# EAGLE library part CON-USB (library zz-m-pad-2.1)
Various USB Typ-A Connectors. From: Assmann Electronics Mill-Max Kycon
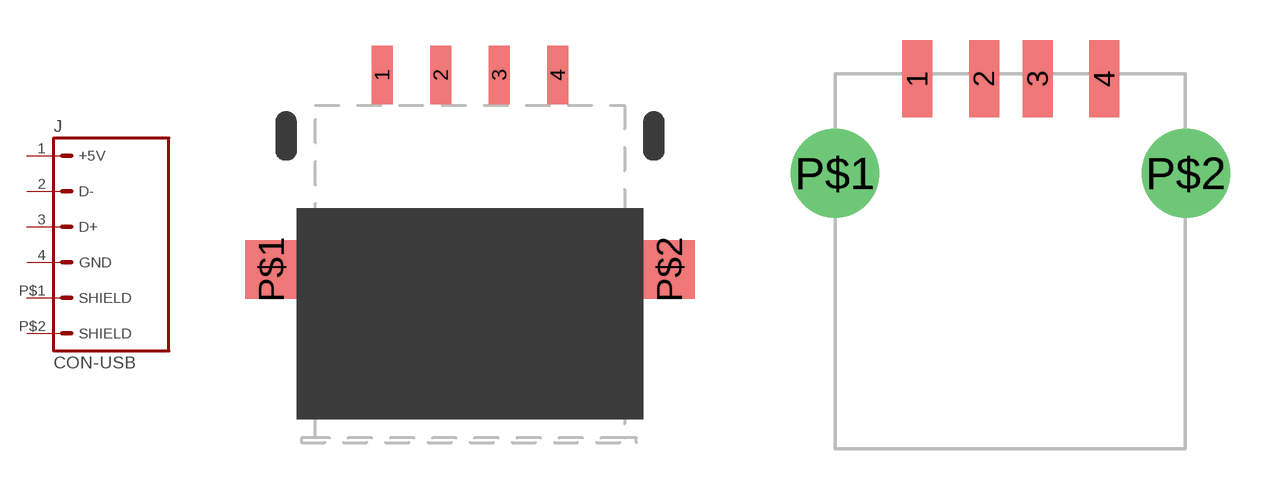
[diagram p118: symbol with the pads of KUSBL-SMT-AS1N; footprints KUSBL-SMT-AS1N, 896-30-004-00-000]

Designator prefix J

## CON-USB-2  [KUSBL-SMT-AS1N]
1  +5V  pas
2  D-  pas
3  D+  pas
4  GND  pas
P$1  SHIELD  pas
P$2  SHIELD  pas

## CON-USB-1  [896-30-004-00-000]
Pads as for KUSBL-SMT-AS1N

## CON-USB-3  [A-USB-A/SMT]
Pads as for KUSBL-SMT-AS1N

## Footprint KUSBL-SMT-AS1N (pad centres in mm)
Kycon KUSBL-SMT-AS1N KUSBL-SMT Series Low Profile A-Type Universal Serial Bus Features: Compatible With Many Computer Peripherals CSA/NRTL Certifed File No. LR78160 Supports Hot Plugging Meets USB 1.1 and 2.0 Specifications Low Profile, Surface Mount Contact Area With Gold Plating Please send any comments to: messi@users.sourceforge.net
smd 0.9 x 2.5: 1 -3.75,14.7; 2 -1.25,14.7; 3 1.25,14.7; 4 3.75,14.7
smd 2.2 x 2.5: P$1 -8.5,6.4; P$2 8.5,6.4

## Footprint 896-30-004-00-000 (pad centres in mm)
Mill-MAX's 896 and 897 Series Universal Serial Bus Sockets Features: USB receptacles for thru-hole & surface mount. Plug retention tabs. Kinked locating legs for secure PCB retention. Fully compatible with USB 1.0 specification. Passes 16MHz Signal Attentuation per ASTM-D-4566. Packaged in trays, 150 pieces per tray. Specifications: Materials: Shell & contact material: copper alloy Shell finish: tin/lead over copper Contact finish: 30?? selective gold, tin/lead tail Housing material: glass filled thermoplastic rated UL94V-0 Ratings: Voltage: 30VAC (rms) Current: 1A max. per contact for 30°C temperature rise Thru-hole housings rated at 130°C for wave soldering SMT housing rated at 240°C for reflow soldering Electrical: Contact resistance: 30mOhm max. Insulation resistance: 1000MOhm min. Dielectric withstanding voltage: 750VAC at sea level Capacitance: 2pF max. Mechanical: Random vibration: No discontinuity greater then 1us per EIA 364-28, cond. V, letter A Physical shock: No discontinuity >greater then 1us per EIA 364-27, condition H Durability: 1500 cycles min. per EIA 364-09 Mating force: 35 Newtons max. per EIA 364-13 Unmating force: 10 Newtons min. per EIA 364-13 Environmental: Thermal shock per EIA 364-32, condition I Humidity per EIA 364-31, method II, condition A Temperature life per EIA 364-17, condition 3, method A Please send any comments to: messi@users.sourceforge.net
smd 1.118 x 2.87: 1 3.073,3.531; 2 5.563,3.531; 3 7.569,3.531; 4 10.058,3.531
drill 2.3 round: P$1 0,0; P$2 13.1,0

## Footprint A-USB-A/SMT (pad centres in mm)
Assmann USB, version A + B , angled, SMD Please send any comments to: messi@users.sourceforge.net
smd 0.9 x 3: 1 -3.5,16; 2 -1,16; 3 1,16; 4 3.5,16
drill 2.3 round: P$1 -6.55,10.3; P$2 6.55,10.3